# EAGLE library part TPS62160 (library HAB)
TPS62160 Adjustable switch-mode D-CAP2 regulator
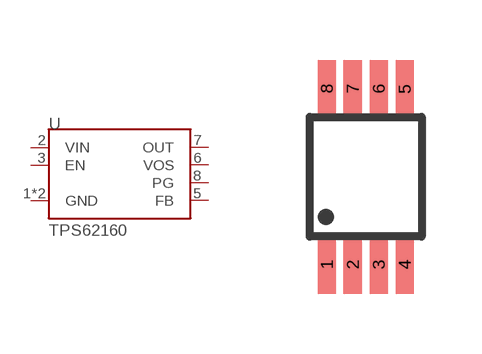
[diagram p1: symbol with the pads of MSOP8; footprint MSOP8]

Designator prefix U

## TPS62160  [MSOP8]
1  GND  pwr
2  VIN  pwr
3  EN  in
4  GND  pwr
5  FB  in
6  VOS  in
7  OUT  out
8  PG  oc

## Footprint MSOP8 (pad centres in mm)
Micro Small Outline Package Grid .65mm
smd 0.45 x 1.45: 1 -0.975,-2.2; 2 -0.325,-2.2; 3 0.325,-2.2; 4 0.975,-2.2; 5 0.975,2.2; 6 0.325,2.2; 7 -0.325,2.2; 8 -0.975,2.2